# EAGLE library part JS203011CQN (library switch-omron)
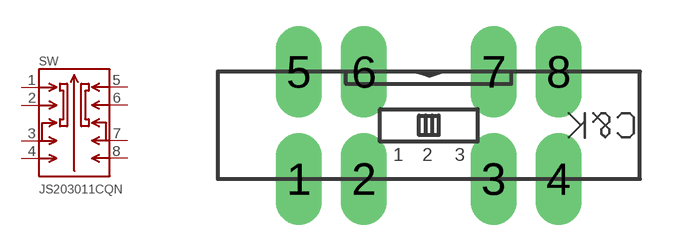
[diagram p1: symbol with the pads of JS203011CQN; footprint JS203011CQN]

Designator prefix SW

## JS203011CQN  [JS203011CQN]
1  1
2  2
3  3
4  4
5  5
6  6
7  7
8  8

## Footprint JS203011CQN (pad centres in mm)
drill 0.9 long: 1 -4,-1.65; 2 -2,-1.65; 3 2,-1.65; 4 4,-1.65; 5 -4,1.65; 6 -2,1.65; 7 2,1.65; 8 4,1.65